# Altium footprint library RLC.PcbLib: 144 footprints (part 1 of 9)
Each footprint in its own frame and in the unit in brackets; x right, y up, seen from the top. Pads: shape width x height; smd on the part's side, far side on the other; paste and mask are expansions set on the pad; w line width, h text height; cw(c..) or ccw(c..) is an arc to the next point about the centre after c.
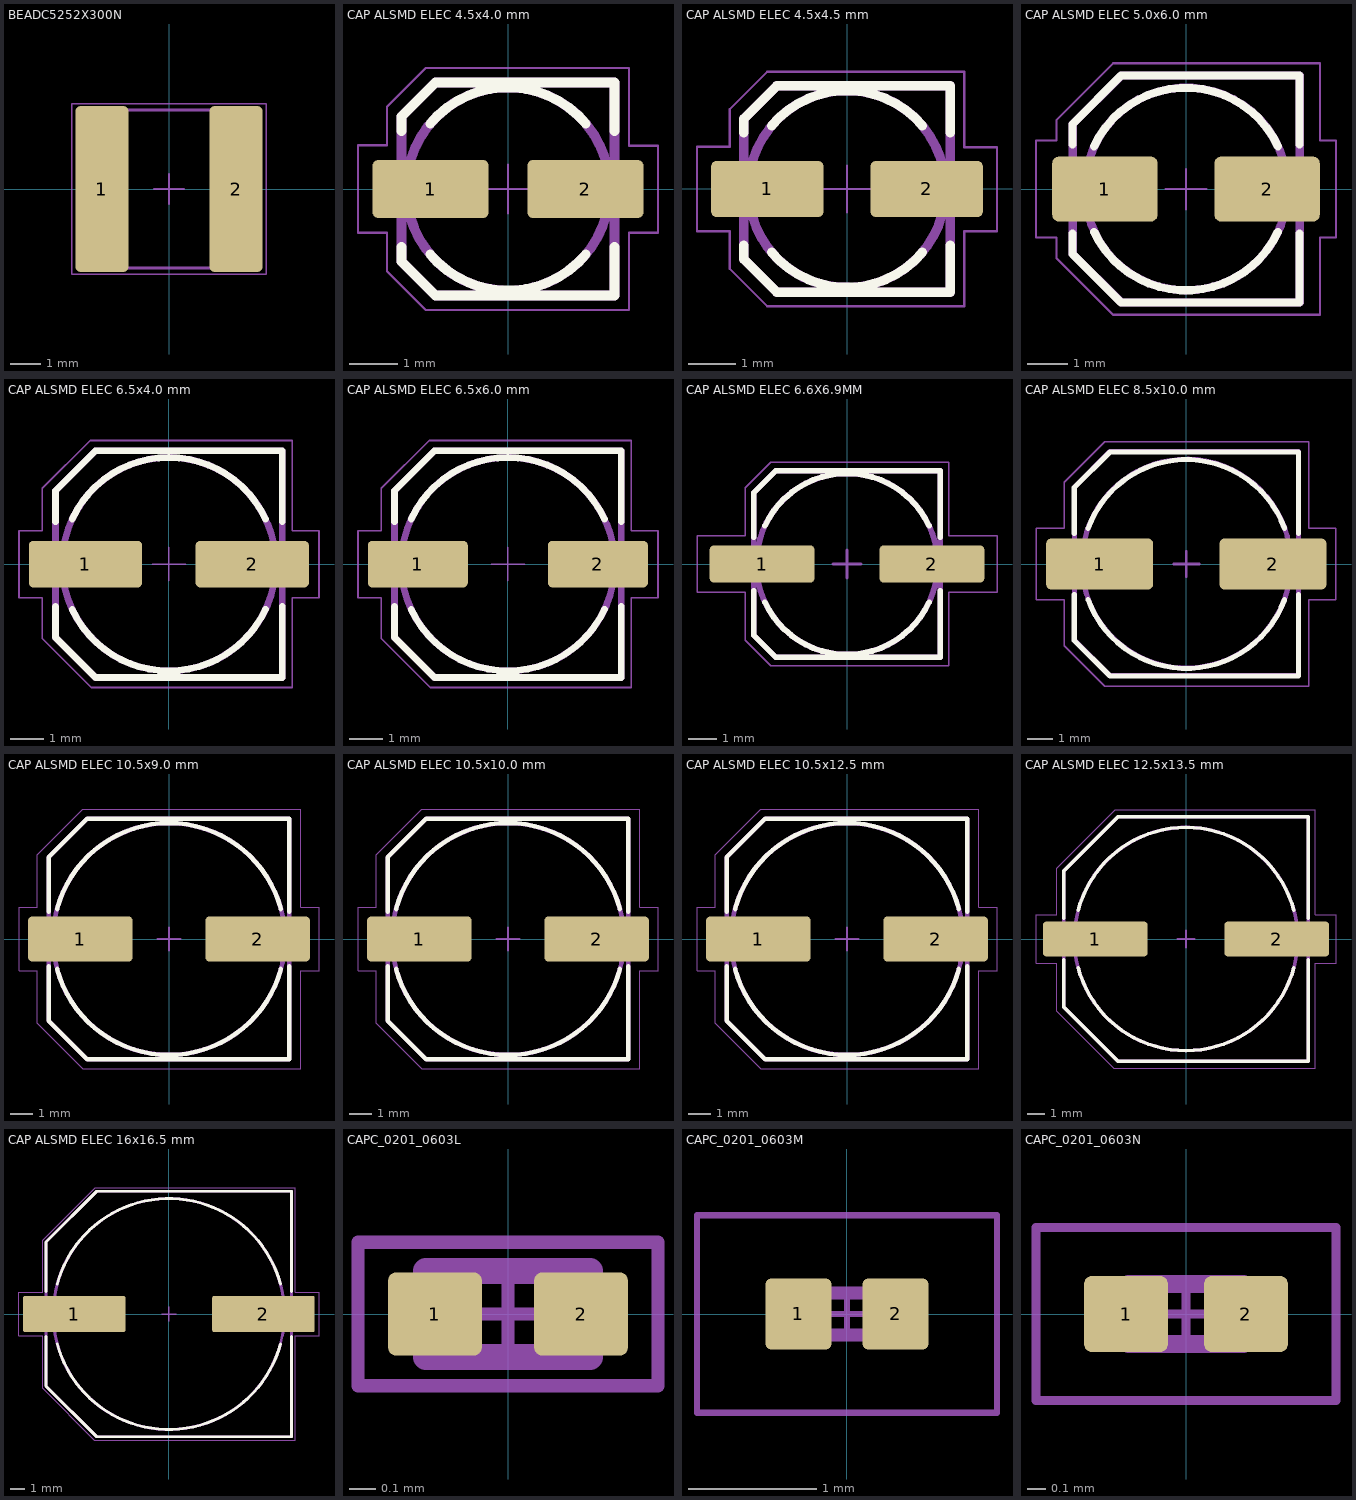
[diagram p0: the footprints below, top view; thin cyan lines are the x and y axes]

## BEADC5252X300N [mm]
pads (2):
  rrect20% 1.75x5.45 smd: 1(-2.2,0) 2(2.2,0)
Top Designator:
  text ".Designator" at -3.199,3.2 h0.6
Top Assembly:
  lines w0.1: -2.734,1.102 -2.9,1.1 -2.9,-1.1 -2.731,-1.1 ; -2.228,-2.6 2.226,-2.591 ccw(c2.226,-2.091) 2.726,-2.091 2.728,2.098 ccw(c2.228,2.098) 2.228,2.598 ; -2.228,-2.598 cw(c-2.228,-2.098) -2.728,-2.098 -2.726,2.091 cw(c-2.226,2.091) -2.226,2.591 2.228,2.6 ; 2.731,1.1 2.9,1.1 2.9,-1.1 2.734,-1.102
Top Courtyard:
  lines w0.05: -0.5,0 0.5,0 ; 0,-0.5 0,0.5 ; -3.2,-2.8 -3.2,2.8 3.2,2.8 3.2,-2.8 -3.2,-2.8
3D body "IHLP2020CZER2R2M11.stp": height 2.89, standoff 0.03, extent -2.722,-2.579 2.729,2.567

## CAP ALSMD ELEC 4.5x4.0 mm [mm] "Electrolytic Cap, D: 4.3mm, Size B, 3.9mm Height"
height 3.9
pads (2):
  rrect20% 2.4x1.2 smd: 1(-1.6,0) 2(1.6,0)
Top Overlay:
  lines w0.2: -2.2,-1.2 -2.2,-1.5 -1.5,-2.2 2.2,-2.2 2.2,-1.2 ; -2.2,1.2 -2.2,1.5 -1.5,2.2 2.2,2.2 2.2,1.2 ; -1.609,-1.35 ccw(c0,0) 1.609,-1.35 ; -1.609,1.35 cw(c0,0) 1.609,1.35
Top Designator:
  text ".Designator" at -2.899,2.8 h0.6
Top Assembly:
  lines w0.2: 1.609,1.35 ccw(c0,0) 1.621,1.335 ; -2.2,-1.5 -1.5,-2.2 2.2,-2.2 2.2,2.2 -1.5,2.2 -2.2,1.5 -2.2,-1.5
Top Courtyard:
  lines w0.05: -0.5,0 0.5,0 ; 0,-0.5 0,0.5 ; -3.1,-0.9 -2.5,-0.9 -2.5,-1.7 -1.7,-2.5 2.5,-2.5 2.5,-0.9 3.1,-0.9 3.1,0.894 2.5,0.894 2.5,2.5 -1.7,2.5 -2.5,1.7 -2.5,0.9 -3.1,0.9 -3.1,-0.9
3D body "User Library-CAPSMD4x3_9.STEP": height 3.91, standoff 0, extent -2.257,-2.15 2.343,2.15

## CAP ALSMD ELEC 4.5x4.5 mm [mm] "Electrolytic Cap, D: 4.3mm, Size B, 5.5mm Height"
height 5.5
pads (2):
  rrect20% 2.4x1.2 smd: 1(-1.7,0) 2(1.7,0)
Top Overlay:
  lines w0.2: -2.2,-1.2 -2.2,-1.5 -1.5,-2.2 2.2,-2.2 2.2,-1.2 ; -2.2,1.2 -2.2,1.5 -1.5,2.2 2.2,2.2 2.2,1.2 ; -1.609,-1.35 ccw(c0,0) 1.609,-1.35 ; -1.609,1.35 cw(c0,0) 1.609,1.35
Top Designator:
  text ".Designator" at -2.899,2.8 h0.6
Top Assembly:
  lines w0.2: 1.609,1.35 ccw(c0,0) 1.621,1.335 ; -2.2,-1.5 -1.5,-2.2 2.2,-2.2 2.2,2.2 -1.5,2.2 -2.2,1.5 -2.2,-1.5
Top Courtyard:
  lines w0.05: -0.5,0 0.5,0 ; 0,-0.5 0,0.5 ; -3.2,-0.9 -2.5,-0.9 -2.5,-1.7 -1.7,-2.5 2.5,-2.5 2.5,-0.9 3.2,-0.9 3.2,0.894 2.5,0.894 2.5,2.5 -1.7,2.5 -2.5,1.7 -2.5,0.9 -3.2,0.9 -3.2,-0.9
3D body "4x5.5x1.stp": height 5.5, standoff 0, extent -2.5,-2.15 2.5,2.15

## CAP ALSMD ELEC 5.0x6.0 mm [mm] "Electrolytic Cap, D: 5.0mm, L: 5.8mm, Size C"
pads (2):
  rrect20% 2.6x1.6 smd: 1(-2,0) 2(2,0)
Top Overlay:
  lines w0.2: -2.8,-1.1 -2.8,-1.6 -1.6,-2.8 2.8,-2.8 2.8,-1.1 ; -2.8,1.1 -2.8,1.6 -1.6,2.8 2.8,2.8 2.8,1.1 ; -2.266,-1.057 ccw(c0,0) 2.266,-1.057 ; -2.266,1.057 cw(c0,0) 2.266,1.057
Top Designator:
  text ".Designator" at -3.099,3.5 h0.6
Top Assembly:
  lines w0.2: -2.794,-1.6 -2.794,1.603 -1.594,2.803 2.806,2.803 2.806,-2.8 ; -2.794,-1.597 -1.594,-2.797 2.806,-2.797 ; 2.018,1.487 ccw(c0.006,0.003) 2.04,1.457
Top Courtyard:
  lines w0.05: -0.5,0 0.5,0 ; 0,-0.5 0,0.5 ; -3.7,-1.2 -3.7,1.2 -3.2,1.2 -3.2,1.701 -1.797,3.104 3.3,3.104 3.3,1.2 3.7,1.2 3.7,-1.2 3.3,-1.2 3.3,-3.1 -1.8,-3.1 -3.2,-1.7 -3.2,-1.2 -3.7,-1.2
3D body "5x5.8x1.4.stp": height -0.4, standoff -6.2, extent -3,-2.65 3,2.65

## CAP ALSMD ELEC 6.5x4.0 mm [mm] "Electrolytic Cap, D: 6.3mm L: 3.9mm, Size D"
height 4
pads (2):
  rrect20% 3.4x1.4 smd: 1(-2.5,0) 2(2.5,0)
Top Overlay:
  lines w0.2: -3.4,-1.27 -3.4,-2.2 -2.2,-3.4 3.4,-3.4 3.4,-1.27 ; -3.4,1.27 -3.4,2.2 -2.2,3.4 3.4,3.4 3.4,1.27 ; -2.9,-1.352 ccw(c0,0) 2.9,-1.352 ; -2.9,1.352 cw(c0,0) 2.9,1.352
Top Designator:
  text ".Designator" at -2.999,4.1 h0.6
Top Courtyard:
  lines w0.05: -0.5,0 0.5,0 ; 0,-0.5 0,0.5 ; -4.493,-1.002 -4.493,1.001 -3.8,1.001 -3.8,2.272 -2.362,3.71 3.703,3.71 3.703,1.004 4.502,1.004 4.502,-1.002 3.7,-1.002 3.7,-3.7 -2.328,-3.7 -3.797,-2.231 -3.797,-1.002 -4.493,-1.002
Top 3D Body:
  lines w0.2: -2.905,1.341 ccw(c0,0) -2.9,1.352 ; -3.4,-2.2 -3.4,2.2 -2.2,3.4 3.4,3.4 3.4,-3.4 -2.2,-3.4 -3.4,-2.2
3D body "User Library-CAPSMD6_3x3_9.STEP": height 3.91, standoff 0, extent -3.586,-3.3 3.414,3.3

## CAP ALSMD ELEC 6.5x6.0 mm [mm] "Electrolytic Cap, D: 6.3mm L: 5.8mm, Size D"
height 5.8
pads (2):
  rrect20% 3x1.4 smd: 1(-2.7,0) 2(2.7,0)
Top Overlay:
  lines w0.2: -3.4,-1.27 -3.4,-2.2 -2.2,-3.4 3.4,-3.4 3.4,-1.27 ; -3.4,1.27 -3.4,2.2 -2.2,3.4 3.4,3.4 3.4,1.27 ; -2.9,-1.352 ccw(c0,0) 2.9,-1.352 ; -2.9,1.352 cw(c0,0) 2.9,1.352
Top Designator:
  text ".Designator" at -2.999,4.1 h0.6
Top Courtyard:
  lines w0.05: -0.5,0 0.5,0 ; 0,-0.5 0,0.5 ; -4.493,-1.002 -4.493,1.001 -3.8,1.001 -3.8,2.272 -2.362,3.71 3.703,3.71 3.703,1.004 4.502,1.004 4.502,-1.002 3.7,-1.002 3.7,-3.7 -2.328,-3.7 -3.797,-2.231 -3.797,-1.002 -4.493,-1.002
Top 3D Body:
  lines w0.2: -2.905,1.341 ccw(c0,0) -2.9,1.352 ; -3.4,-2.2 -3.4,2.2 -2.2,3.4 3.4,3.4 3.4,-3.4 -2.2,-3.4 -3.4,-2.2
3D body "6.3x5.8x2.2.stp": height 5.8, standoff 0, extent -3.65,-3.3 3.65,3.3

## CAP ALSMD ELEC 6.6X6.9MM [mm] "Aluminum SMD Electrolytic Capacitor, 6.60mm Land Size, 6.30mm Diameter, 6.90mm Height, 8.00mm Maximum Leads Span"
height 0.65
pads (2):
  rrect20% 3.7x1.3 smd: 1(-3,0) 2(3,0)
Top Overlay:
  lines w0.2: -3.3,-0.95 -3.3,-2.512 -2.512,-3.3 3.3,-3.3 3.3,-0.95 ; -3.3,0.95 -3.3,2.512 -2.512,3.3 3.3,3.3 3.3,0.95 ; -2.9,-1.352 ccw(c0,0) 2.9,-1.352 ; -2.9,1.352 cw(c0,0) 2.9,1.352
Top Designator:
  text ".Designator" at -2.999,4.1 h0.6
Top Assembly:
  lines w0.2: -3.3,2.5 -3.3,-2.512 -2.512,-3.3 3.3,-3.3 3.3,3.3 -2.512,3.3 -3.3,2.512 ; 2.9,-1.352 cw(c0,0) 2.92,-1.309
Top Courtyard:
  lines w0.05: -0.5,0 0.5,0 ; 0,-0.5 0,0.5 ; -5.3,-1.002 -5.3,1.001 -3.6,1.001 -3.6,2.7 -2.7,3.6 3.6,3.6 3.6,1 5.3,1 5.3,-1.002 3.6,-1.002 3.6,-3.6 -2.7,-3.6 -3.6,-2.7 -3.6,-1.002 -5.3,-1.002
  lines w0.1: -0.5,0 0.5,0 ; 0,-0.5 0,0.5
3D body ".STEP": height 6.9, standoff 0, extent -4,-3.3 4,3.3

## CAP ALSMD ELEC 8.5x10.0 mm [mm] "Electrolytic Cap, Size E, Size F, 8.3X10"
height 10
pads (2):
  rrect20% 4.2x2 smd: 1(-3.4,0) 2(3.4,0)
Top Overlay:
  lines w0.2: -4.4,-1.2 -4.4,-3 -3,-4.4 4.4,-4.4 4.4,-1.2 ; -4.4,1.2 -4.4,3 -3,4.4 4.4,4.4 4.4,1.2 ; -3.853,-1.402 ccw(c0,0) 3.853,-1.402 ; -3.853,1.402 cw(c0,0) 3.853,1.402
Top Designator:
  text ".Designator" at -2.999,5.1 h0.6
Top Assembly:
  lines w0.2: 3.857,-1.385 cw(c0.004,0.017) 3.874,-1.337 ; -4.396,-2.983 -2.996,-4.383 4.404,-4.383 4.404,4.417 -2.996,4.417 -4.396,3.017 -4.396,-2.983
Top Courtyard:
  lines w0.05: -5.9,-1.4 -5.9,1.4 -4.8,1.4 -4.8,3.2 -3.2,4.8 4.8,4.8 4.8,1.4 5.875,1.4 5.875,-1.4 4.8,-1.4 4.8,-4.8 -3.2,-4.8 -4.8,-3.2 -4.8,-1.4 -5.9,-1.4
  lines w0.1: -0.5,0 0.5,0 ; 0,-0.5 0,0.5
3D body "Cap_0810.STEP": height 10.3, standoff -0.2, extent -4.902,-4.25 4.798,4.25

## CAP ALSMD ELEC 10.5x9.0 mm [mm] "Electrolytic Cap, 10.3mm, L: 8.7mm"
height 8.7
pads (2):
  rrect20% 4.6x2 smd: 1(-3.9,0) 2(3.9,0)
Top Overlay:
  lines w0.2: -5.3,-1.2 -5.3,-3.6 -3.6,-5.3 5.3,-5.3 5.3,-1.2 ; -5.3,1.2 -5.3,3.6 -3.6,5.3 5.3,5.3 5.3,1.2 ; -4.926,-1.32 ccw(c0,0) 4.926,-1.32 ; -4.926,1.32 cw(c0,0) 4.926,1.32
Top Designator:
  text ".Designator" at -2.999,6.1 h0.6
Top Assembly:
  lines w0.2: -4.948,-1.237 cw(c0,0) -4.926,-1.32 ; -5.3,-3.6 -3.6,-5.3 5.3,-5.3 5.3,5.3 -3.6,5.3 -5.3,3.6 -5.3,-3.6
Top Courtyard:
  lines w0.05: -6.6,-1.4 -5.8,-1.4 -5.8,-3.7 -3.8,-5.7 5.8,-5.7 5.8,-1.4 6.6,-1.4 6.6,1.4 5.8,1.4 5.8,5.7 -3.8,5.7 -5.8,3.7 -5.8,1.4 -6.6,1.4 -6.6,-1.4
  lines w0.1: -0.5,0 0.5,0 ; 0,-0.5 0,0.5
3D body "10x8.7x4.5.stp": height -0.4, standoff -9.1, extent -5.5,-5.15 5.5,5.15

## CAP ALSMD ELEC 10.5x10.0 mm [mm] "Electrolytic Cap, 10.3mm, L: 10mm"
height 10
pads (2):
  rrect20% 4.6x2 smd: 1(-3.9,0) 2(3.9,0)
Top Overlay:
  lines w0.2: -5.3,-1.2 -5.3,-3.6 -3.6,-5.3 5.3,-5.3 5.3,-1.2 ; -5.3,1.2 -5.3,3.6 -3.6,5.3 5.3,5.3 5.3,1.2 ; -4.926,-1.32 ccw(c0,0) 4.926,-1.32 ; -4.926,1.32 cw(c0,0) 4.926,1.32
Top Designator:
  text ".Designator" at -2.999,6.1 h0.6
Top Assembly:
  lines w0.2: -4.948,-1.237 cw(c0,0) -4.926,-1.32 ; -5.3,-3.6 -3.6,-5.3 5.3,-5.3 5.3,5.3 -3.6,5.3 -5.3,3.6 -5.3,-3.6
Top Courtyard:
  lines w0.05: -6.6,-1.4 -5.8,-1.4 -5.8,-3.7 -3.8,-5.7 5.8,-5.7 5.8,-1.4 6.6,-1.4 6.6,1.4 5.8,1.4 5.8,5.7 -3.8,5.7 -5.8,3.7 -5.8,1.4 -6.6,1.4 -6.6,-1.4
  lines w0.1: -0.5,0 0.5,0 ; 0,-0.5 0,0.5
3D body "User Library-cap_10x10x10-1.STEP": height 10.5, standoff 0, extent -5.901,-5.25 5.899,5.25

## CAP ALSMD ELEC 10.5x12.5 mm [mm] "Electrolytic Cap, 10.3mm, L: 12.4mm"
height 12.4
pads (2):
  rrect20% 4.6x2 smd: 1(-3.9,0) 2(3.9,0)
Top Overlay:
  lines w0.2: -5.3,-1.2 -5.3,-3.6 -3.6,-5.3 5.3,-5.3 5.3,-1.2 ; -5.3,1.2 -5.3,3.6 -3.6,5.3 5.3,5.3 5.3,1.2 ; -4.926,-1.32 ccw(c0,0) 4.926,-1.32 ; -4.926,1.32 cw(c0,0) 4.926,1.32
Top Designator:
  text ".Designator" at -2.999,6.1 h0.6
Top Assembly:
  lines w0.2: -4.948,-1.237 cw(c0,0) -4.926,-1.32 ; -5.3,-3.6 -5.3,3.6 -3.6,5.3 5.3,5.3 5.3,-5.3 -3.6,-5.3 -5.3,-3.6
Top Courtyard:
  lines w0.05: -6.6,-1.4 -6.6,1.4 -5.8,1.4 -5.8,3.7 -3.8,5.7 5.8,5.7 5.8,1.4 6.6,1.4 6.6,-1.4 5.8,-1.4 5.8,-5.7 -3.8,-5.7 -5.8,-3.7 -5.8,-1.4 -6.6,-1.4
  lines w0.1: -0.5,0 0.5,0 ; 0,-0.5 0,0.5
3D body "10x12.4x4.5.stp": height 12.45, standoff 0.05, extent -5.5,-5.15 5.5,5.15

## CAP ALSMD ELEC 12.5x13.5 mm [mm] "Electrolytic Cap, 12.5x13mm"
height 10
pads (2):
  rrect20% 6x2 smd mask+0.1: 1(-5.2,0) 2(5.2,0)
Top Overlay:
  lines w0.2: -7,-1.2 -7,-3.9 -3.9,-7 7,-7 7,-1.2 ; -7,1.2 -7,3.9 -3.9,7 7,7 7,1.2 ; -6.182,-1.656 ccw(c0,0) 6.182,-1.656 ; -6.182,1.656 cw(c0,0) 6.182,1.656
Top Designator:
  text ".Designator" at -2.999,7.9 h0.6
Top Assembly:
  lines w0.2: 6.182,-1.656 cw(c0,0) 6.203,-1.577 ; -7,-3.9 -3.9,-7 7,-7 7,7 -3.9,7 -7,3.9 -7,-3.9
Top Courtyard:
  lines w0.05: -8.6,-1.4 -8.6,1.4 -7.4,1.4 -7.4,4.058 -4.058,7.4 7.4,7.4 7.4,1.4 8.6,1.4 8.6,-1.4 7.4,-1.4 7.4,-7.4 -4.144,-7.4 -7.4,-4.144 -7.4,-1.4 -8.6,-1.4
  lines w0.1: -0.5,0 0.5,0 ; 0,-0.5 0,0.5
3D body "User Library-ALU-H16.step": height 17, standoff 0, extent -7.75,-6.85 7.75,6.85

## CAP ALSMD ELEC 16x16.5 mm [mm]
height 16.5
pads (2):
  rrect10% 7.1x2.5 smd: 1(-6.55,0) 2(6.55,0)
Top Overlay:
  lines w0.2: -8.5,-1.57 -8.5,-5 -5,-8.5 8.5,-8.5 8.5,-1.57 ; -8.5,1.57 -8.5,4.997 -4.997,8.5 8.5,8.5 8.5,1.57 ; -7.727,-2.071 ccw(c0,0) 7.727,-2.071 ; -7.727,2.071 cw(c0,0) 7.727,2.071
Top Designator:
  text ".Designator" at -2.999,9.3 h0.6
Top Assembly:
  lines w0.2: 7.727,-2.071 cw(c0,0) 7.753,-1.971 ; -8.5,-5 -5,-8.5 8.5,-8.5 8.5,8.5 -5,8.5 -8.5,5 -8.5,-5
Top Courtyard:
  lines w0.05: -10.379,-1.5 -10.379,1.5 -8.75,1.5 -8.75,5.109 -5.109,8.75 8.75,8.75 8.75,1.5 10.4,1.5 10.4,-1.5 8.75,-1.5 8.75,-8.75 -5.15,-8.75 -8.75,-5.15 -8.75,-1.5 -10.379,-1.5
  lines w0.1: -0.5,0 0.5,0 ; 0,-0.5 0,0.5
3D body "step_temp.STEP": height 16.5, standoff 0, extent -9.2,-8.5 9.2,8.5

## CAPC_0201_0603L [mm] "Chip Capacitor, Body 0.6x0.3mm, IPC High Density"
height 0.3
pads (2):
  rrect20% 0.36x0.32 smd: 1(-0.28,0) 2(0.28,0)
Top Designator:
  text ".Designator" at -2.899,0.6 h0.6
Top Assembly:
  lines w0.1: -0.315,-0.165 0.315,-0.165 0.315,0.165 -0.315,0.165 -0.315,-0.165
Top Courtyard:
  lines w0.05: -0.165,0 0.165,0 ; 0,-0.165 0,0.165 ; -0.575,-0.275 0.575,-0.275 0.575,0.275 -0.575,0.275 -0.575,-0.275
3D body "0201_BA_BB.stp": height 0.3, standoff 0, extent -0.298,-0.147 0.302,0.153

## CAPC_0201_0603M [mm] "Chip Capacitor, Body 0.6x0.3mm, IPC Low Density"
height 0.3
pads (2):
  rrect20% 0.52x0.56 smd: 1(-0.38,0) 2(0.38,0)
Top Designator:
  text ".Designator" at -2.899,1.1 h0.6
Top Assembly:
  lines w0.1: -0.315,-0.165 -0.315,0.165 0.315,0.165 0.315,-0.165 -0.315,-0.165
Top Courtyard:
  lines w0.05: -0.165,0 0.165,0 ; 0,-0.165 0,0.165 ; -1.175,-0.775 -1.175,0.775 1.175,0.775 1.175,-0.775 -1.175,-0.775
3D body "0201_BA_BB.stp": height 0.3, standoff 0, extent -0.302,-0.153 0.298,0.147

## CAPC_0201_0603N [mm] "Chip Capacitor, Body 0.6x0.3mm, IPC Medium Density"
height 0.3
pads (2):
  rrect20% 0.46x0.42 smd: 1(-0.33,0) 2(0.33,0)
Top Designator:
  text ".Designator" at -2.799,0.8 h0.6
Top Assembly:
  lines w0.1: -0.315,-0.165 0.315,-0.165 0.315,0.165 -0.315,0.165 -0.315,-0.165
Top Courtyard:
  lines w0.05: -0.165,0 0.165,0 ; 0,-0.165 0,0.165 ; -0.825,-0.475 0.825,-0.475 0.825,0.475 -0.825,0.475 -0.825,-0.475
3D body "0201_BA_BB.stp": height 0.3, standoff 0, extent -0.297,-0.148 0.303,0.152